# EAGLE library part 6621XX145021_662112145021 (library Wurth_Connectors_WR-MPC3)
WR-MPC3 3.00 mm SMT Male Single Row Angled Header with SMT Solder Tabs KIND PROPERTIES Pitch 3 mm Gender Male MATERIAL PROPERTIES Insulator Material LCP Insulator Flammability Rating UL94 V-0 Insulator Color Black Contact Material Copper Alloy Contact Plating Tin Contact Type Stamped GENERAL INFORMATION Operating Temperature -40 up to +105 °C Compliance:RoHS Working Voltage 250 V (AC) Withstanding Voltage 1500 V (AC) Contact Resistance 10 mΩ RISO 1000 MΩ CERTIFICATION UL Approval E323964 WIRE PROPERTIES Packaging Tape and Reel <https://katalog.we-online.de/media/images/v2/o33172v209%20Family_WR-MPC3_6621xx145021.jpg> Details see: https://katalog.we-online.de/en/em/MPC3_3_00_MALE_SINGLE_ROW_ANGLED_HEADER_6621XX145021 Created by Yingchun,Shan 2019-11-15 2019 (C) Würth Elektronik
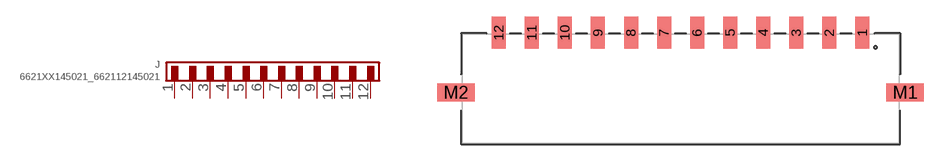
[diagram p111: symbol with the pads of 662112145021; footprint 662112145021]

Designator prefix J

## 6621XX145021_662112145021 (CONTACT-RESISTANCE: 10Ohm; DATASHEET-URL: https://www.we-online.com/redexpert/spec/662112145021?ae; GENDER: Male; IR: 5A; MOUNT: SMT; PART-NUMBER: 662112145021; PINS: 12; PITCH: 3mm; ROWS: Single; TOL-R: max.; TYPE: Right Angled; VALUE: 662112145021; WORKING-VOLTAGE: 250V(AC))  [662112145021]
1  1  pas
2  2  pas
3  3  pas
4  4  pas
5  5  pas
6  6  pas
7  7  pas
8  8  pas
9  9  pas
10  10  pas
11  11  pas
12  12  pas

## Footprint 662112145021 (pad centres in mm)
WR-MPC3 3.00 mm SMT Male Single Row Angled Header with SMT Solder Tabs, 12 Pins
smd 1.27 x 2.92: 1 16.5,5.12; 2 13.5,5.12; 3 10.5,5.12; 4 7.5,5.12; 5 4.5,5.12; 6 1.5,5.12; 7 -1.5,5.12; 8 -4.5,5.12; 9 -7.5,5.12; 10 -10.5,5.12; 11 -13.5,5.12; 12 -16.5,5.12
smd 3.43 x 1.65: M1 20.375,-0.35; M2 -20.395,-0.35